# EAGLE library part SHT1X (library Stofer)
Sensiron Humidity sensor
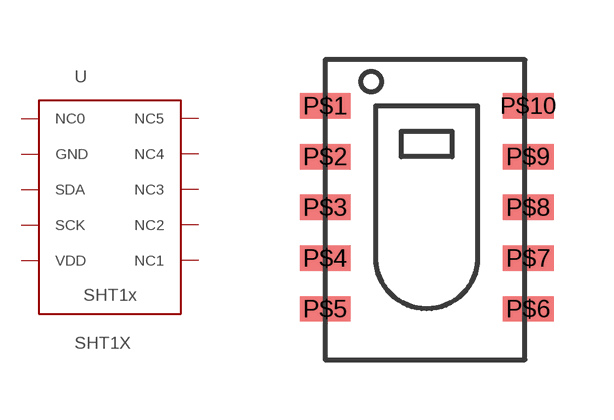
[diagram p14: symbol with the pads of SHT1X; footprint SHT1X]

Designator prefix -

## SHT1X  [SHT1X]
P$1  NC0  in
P$2  GND  pwr
P$3  SDA
P$4  SCK
P$5  VDD  pwr
P$6  NC1
P$7  NC2
P$8  NC3
P$9  NC4
P$10  NC5  in

## Footprint SHT1X (pad centres in mm)
smd 1.27 x 0.635: P$1 -2.54,2.54; P$2 -2.54,1.27; P$3 -2.54,0; P$4 -2.54,-1.27; P$5 -2.54,-2.54; P$6 2.54,-2.54; P$7 2.54,-1.27; P$8 2.54,0; P$9 2.54,1.27; P$10 2.54,2.54